# EAGLE library part 555-4001 (library 68komputer)
Dialight 555-4001 LED Array 4x Red LED Datasheet <https://linearparts.com/documents/Dialight-555-4001.pdf>
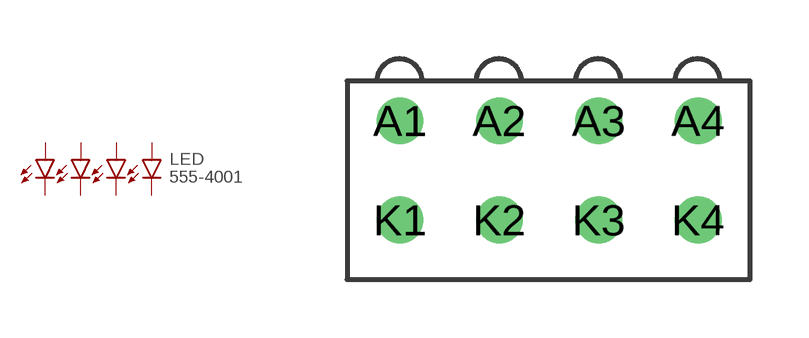
[diagram p39: symbol with the pads of 555-4001; footprint 555-4001]

Designator prefix LED

## 555-4001 (VALUE: 555-4001)  [555-4001]
A1  A1  pas
A2  A2  pas
A3  A3  pas
A4  A4  pas
K1  K1  pas
K2  K2  pas
K3  K3  pas
K4  K4  pas

## Footprint 555-4001 (pad centres in mm)
drill 0.686: A1 1.35,-1.02; A2 3.89,-1.02; A3 6.43,-1.02; A4 8.97,-1.02; K1 1.35,-3.56; K2 3.89,-3.56; K3 6.43,-3.56; K4 8.97,-3.56